# EAGLE library part MAX766CSA (library EKHO)
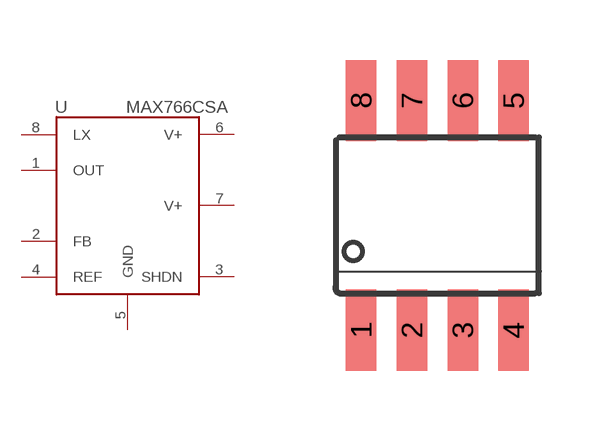
[diagram p2: symbol with the pads of SOIC8; footprint SOIC8]

Designator prefix U

## MAX766CSA  [SOIC8]
1  OUT
2  FB
3  SHDN
4  REF
5  GND
6  V+
7  V+
8  LX

## Footprint SOIC8 (pad centres in mm)
MAXIM SOIC8 http://pdfserv.maximintegrated.com/package_dwgs/21-0041.PDF
smd 0.762 x 2.032: 1 -1.905,-2.873; 2 -0.635,-2.873; 3 0.635,-2.873; 4 1.905,-2.873; 5 1.905,2.873; 6 0.635,2.873; 7 -0.635,2.873; 8 -1.905,2.873